# EAGLE library part LINEAR_REG_5V (library TinkerTech)
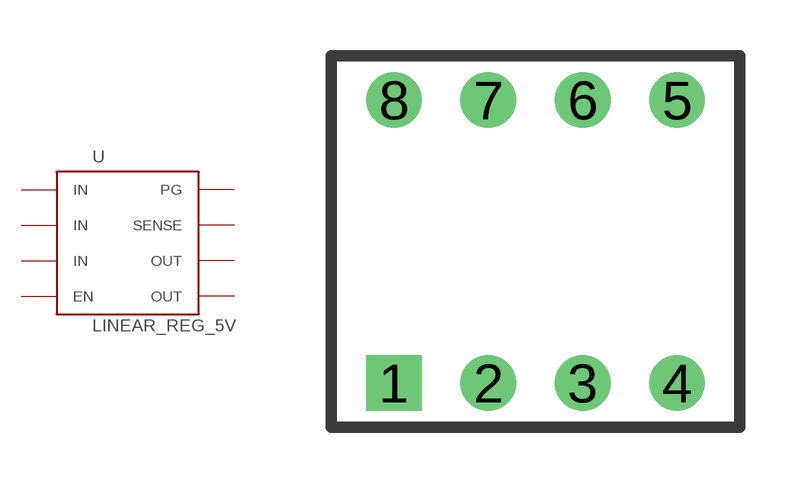
[diagram p2: symbol with the pads of DIP-8; footprint DIP-8]

Designator prefix -

## LINEAR_REG_5V  [DIP-8]
1  IN  in
2  IN  in
3  IN  in
4  EN  in
5  OUT  out
6  OUT  out
7  SENSE  in
8  PG  out

## Footprint DIP-8 (pad centres in mm)
drill 0.9 pad 1.5 square: 1 -3.81,-3.81
drill 0.9 pad 1.5: 2 -1.27,-3.81; 3 1.27,-3.81; 4 3.81,-3.81; 5 3.81,3.81; 6 1.27,3.81; 7 -1.27,3.81; 8 -3.81,3.81